# Altium schematic symbol library MCP41HV51-103E_ST.SchLib: 1 symbol
Pins are listed as number, name and electrical type; pins without a type are passive.

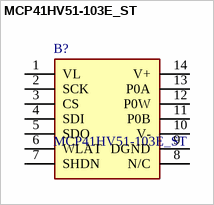
[diagram p0: symbol MCP41HV51-103E_ST]

## MCP41HV51-103E_ST
designator B?
MCP41HV51-103E/ST, Digital Potentiometer 10k 256-Position Serial-SPI 14-Pin TSSOP; Manufacturer_Name: Microchip; Geometry.Height: 1.2mm; Mouser Part Number: 579-MCP41HV51-103EST; Mouser Price/Stock: https://www.mouser.co.uk/ProductDetail/Microchip-Technology/MCP41HV51-103E-ST?qs=zOnbk8%2FsRx46P8R1xF6YQA%3D%3D; Manufacturer_Part_Number: MCP41HV51-103E/ST; Datasheet Link: https://componentsearchengine.com/Datasheets/2/MCP41HV51-103E_ST.pdf
footprint SOP65P640X120-14N
pins: 1 VL (power), 2 SCK, 3 CS, 4 SDI, 5 SDO, 6 WLAT, 7 SHDN, 8 N/C, 9 DGND, 10 V- (power), 11 P0B (power), 12 P0W, 13 P0A, 14 V+ (power)